# Altium footprint library PJ-014D-SMT.PcbLib: 1 footprints
Each footprint in its own frame and in the unit in brackets; x right, y up, seen from the top. Pads: shape width x height; smd on the part's side, far side on the other; paste and mask are expansions set on the pad; w line width, h text height; cw(c..) or ccw(c..) is an arc to the next point about the centre after c.
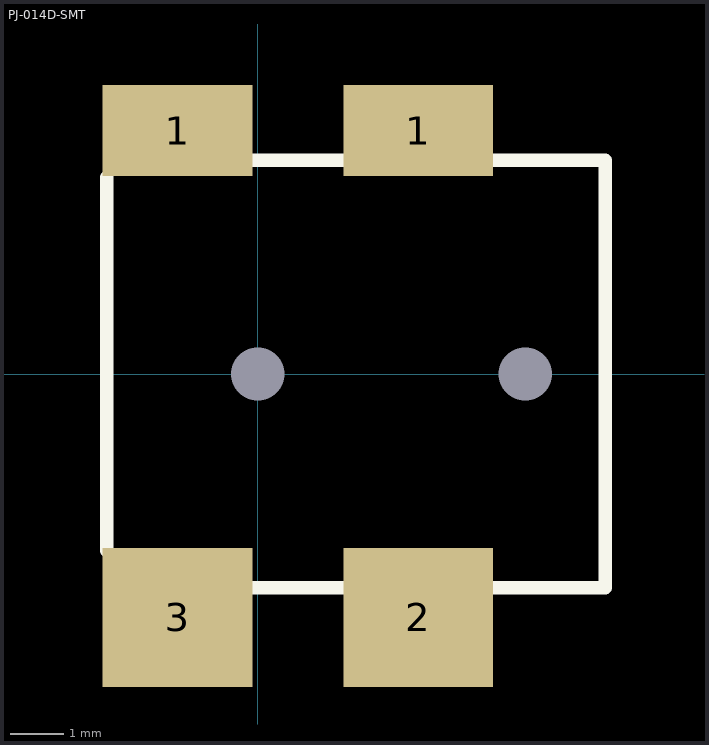
[diagram p0: the footprint, top view; thin cyan lines are the x and y axes]

## PJ-014D-SMT [mm]
pads (6):
  round 0 hole 1 unplated: 0(0,0)
  round 0 hole 1: 0(5,0)
  rect 2.8x1.7 smd mask+0: 1(-1.5,4.55) 1(3,4.55)
  rect 2.8x2.6 smd mask+0: 2(3,-4.55) 3(-1.5,-4.55)
Top Overlay:
  lines w0.254: -2.825,-3.3 -2.825,3.675 ; -0.1,-4 1.6,-4 ; -0.1,4 1.6,4 ; 4.4,-4 6.5,-4 6.5,4 4.4,4
3D body: height 3.14, standoff 1.85, extent -2.425,0.675 6.575,1.972
3D body: height -0.97, standoff -4.85, extent -2.45,-0.621 6.55,3.271
3D body: height 5.2, standoff 0, extent -2.85,-4.05 6.525,4.05